# Altium footprint library PCB - MISC - ZC_Serial.PCBLIB: 1 footprints
Each footprint in its own frame and in the unit in brackets; x right, y up, seen from the top. Pads: shape width x height; smd on the part's side, far side on the other; paste and mask are expansions set on the pad; w line width, h text height; cw(c..) or ccw(c..) is an arc to the next point about the centre after c.

## ZC-Serial [mm] "Serialnumber"
Top Overlay:
  text ".ZC_GGG-.ZC_PPP-.ProjectRevision.ZC_vv-" at 0,0 h3
Top Assembly:
  text ".ZC_GGG-.ZC_PPP-.ProjectRevision.ZC_vv-" at 0,0 h3